# Altium integrated library WE-LF_SMD_rev15a.intlib: 9 symbols
Pins are listed as number, name and electrical type; pins without a type are passive.

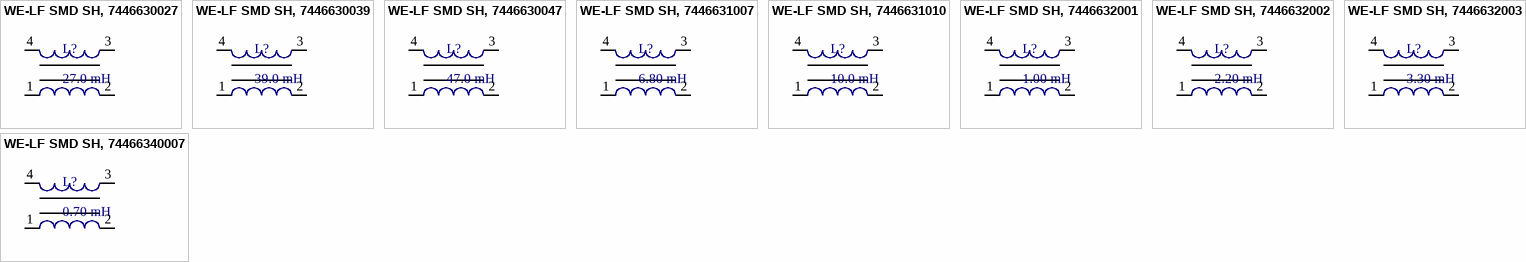
[diagram p0: symbols WE-LF SMD SH, 7446630027 to WE-LF SMD SH, 74466340007]

## WE-LF SMD SH, 7446630027
designator L?, comment 27.0 mH
SMD Common Mode Power Line Choke WE-LF SMD, L=27.0 mH; partNo: 7446630027; Manufacturer: Würth Elektronik eiSos GmbH; Inductance: 27.0 mH; ComponentLink1Description: Manufacturer; ComponentLink1URL: http://www.we-online.de; Created by: Christin Zierenner; Created Date: March 2010; ComponentLink2Description: Datasheet; ComponentLink2URL: http://www.we-online.de/katalog/media/pdf/7446630027.pdf
footprint WE-LF SMD SH (SMD Inductor, 4-Leads, Body 18,5x23,3mm)
pins: 1, 2, 3, 4

## WE-LF SMD SH, 7446630039
designator L?, comment 39.0 mH
SMD Common Mode Power Line Choke WE-LF SMD, L=39.0 mH; partNo: 7446630039; Manufacturer: Würth Elektronik eiSos GmbH; Inductance: 39.0 mH; ComponentLink1Description: Manufacturer; ComponentLink1URL: http://www.we-online.de; Created by: Christin Zierenner; Created Date: March 2010; ComponentLink2Description: Datasheet; ComponentLink2URL: http://www.we-online.de/katalog/media/pdf/7446630039.pdf
footprint WE-LF SMD SH (SMD Inductor, 4-Leads, Body 18,5x23,3mm)
pins: 1, 2, 3, 4

## WE-LF SMD SH, 7446630047
designator L?, comment 47.0 mH
SMD Common Mode Power Line Choke WE-LF SMD, L=47.0 mH; partNo: 7446630047; Manufacturer: Würth Elektronik eiSos GmbH; Inductance: 47.0 mH; ComponentLink1Description: Manufacturer; ComponentLink1URL: http://www.we-online.de; Created by: Christin Zierenner; Created Date: March 2010; ComponentLink2Description: Datasheet; ComponentLink2URL: http://www.we-online.de/katalog/media/pdf/7446630047.pdf
footprint WE-LF SMD SH (SMD Inductor, 4-Leads, Body 18,5x23,3mm)
pins: 1, 2, 3, 4

## WE-LF SMD SH, 7446631007
designator L?, comment 6.80 mH
SMD Common Mode Power Line Choke WE-LF SMD, L=6.80 mH; partNo: 7446631007; Manufacturer: Würth Elektronik eiSos GmbH; Inductance: 6.80 mH; ComponentLink1Description: Manufacturer; ComponentLink1URL: http://www.we-online.de; Created by: Christin Zierenner; Created Date: March 2010; ComponentLink2Description: Datasheet; ComponentLink2URL: http://www.we-online.de/katalog/media/pdf/7446631007.pdf
footprint WE-LF SMD SH (SMD Inductor, 4-Leads, Body 18,5x23,3mm)
pins: 1, 2, 3, 4

## WE-LF SMD SH, 7446631010
designator L?, comment 10.0 mH
SMD Common Mode Power Line Choke WE-LF SMD, L=10.0 mH; partNo: 7446631010; Manufacturer: Würth Elektronik eiSos GmbH; Inductance: 10.0 mH; ComponentLink1Description: Manufacturer; ComponentLink1URL: http://www.we-online.de; Created by: Christin Zierenner; Created Date: March 2010; ComponentLink2Description: Datasheet; ComponentLink2URL: http://www.we-online.de/katalog/media/pdf/7446631010.pdf
footprint WE-LF SMD SH (SMD Inductor, 4-Leads, Body 18,5x23,3mm)
pins: 1, 2, 3, 4

## WE-LF SMD SH, 7446632001
designator L?, comment 1.00 mH
SMD Common Mode Power Line Choke WE-LF SMD, L=1.00 mH; partNo: 7446632001; Manufacturer: Würth Elektronik eiSos GmbH; Inductance: 1.00 mH; ComponentLink1Description: Manufacturer; ComponentLink1URL: http://www.we-online.de; Created by: Christin Zierenner; Created Date: March 2010; ComponentLink2Description: Datasheet; ComponentLink2URL: http://www.we-online.de/katalog/media/pdf/7446632001.pdf
footprint WE-LF SMD SH (SMD Inductor, 4-Leads, Body 18,5x23,3mm)
pins: 1, 2, 3, 4

## WE-LF SMD SH, 7446632002
designator L?, comment 2.20 mH
SMD Common Mode Power Line Choke WE-LF SMD, L=2.20 mH; partNo: 7446632002; Manufacturer: Würth Elektronik eiSos GmbH; Inductance: 2.20 mH; ComponentLink1Description: Manufacturer; ComponentLink1URL: http://www.we-online.de; Created by: Christin Zierenner; Created Date: March 2010; ComponentLink2Description: Datasheet; ComponentLink2URL: http://www.we-online.de/katalog/media/pdf/7446632002.pdf
footprint WE-LF SMD SH (SMD Inductor, 4-Leads, Body 18,5x23,3mm)
pins: 1, 2, 3, 4

## WE-LF SMD SH, 7446632003
designator L?, comment 3.30 mH
SMD Common Mode Power Line Choke WE-LF SMD, L=3.30 mH; partNo: 7446632003; Manufacturer: Würth Elektronik eiSos GmbH; Inductance: 3.30 mH; ComponentLink1Description: Manufacturer; ComponentLink1URL: http://www.we-online.de; Created by: Christin Zierenner; Created Date: March 2010; ComponentLink2Description: Datasheet; ComponentLink2URL: http://www.we-online.de/katalog/media/pdf/7446632003.pdf
footprint WE-LF SMD SH (SMD Inductor, 4-Leads, Body 18,5x23,3mm)
pins: 1, 2, 3, 4

## WE-LF SMD SH, 74466340007
designator L?, comment 0.70 mH
SMD Common Mode Power Line Choke WE-LF SMD, L=0.70 mH; partNo: 74466340007; Manufacturer: Würth Elektronik eiSos GmbH; Inductance: 0.70 mH; ComponentLink1Description: Manufacturer; ComponentLink1URL: http://www.we-online.de; Created by: Christin Zierenner; Created Date: March 2010; ComponentLink2Description: Datasheet; ComponentLink2URL: http://www.we-online.de/katalog/media/pdf/74466340007.pdf
footprint WE-LF SMD SH (SMD Inductor, 4-Leads, Body 18,5x23,3mm)
pins: 1, 2, 3, 4